# EAGLE library part LT1963AEQ-2.5#PBF (library LT1963AEQ-2.5#PBF)
LDO Voltage Regulators Fast Transient 1.5A LDO Source: Datasheet <https://www.analog.com/media/en/technical-documentation/data-sheets/1963aff.pdf>
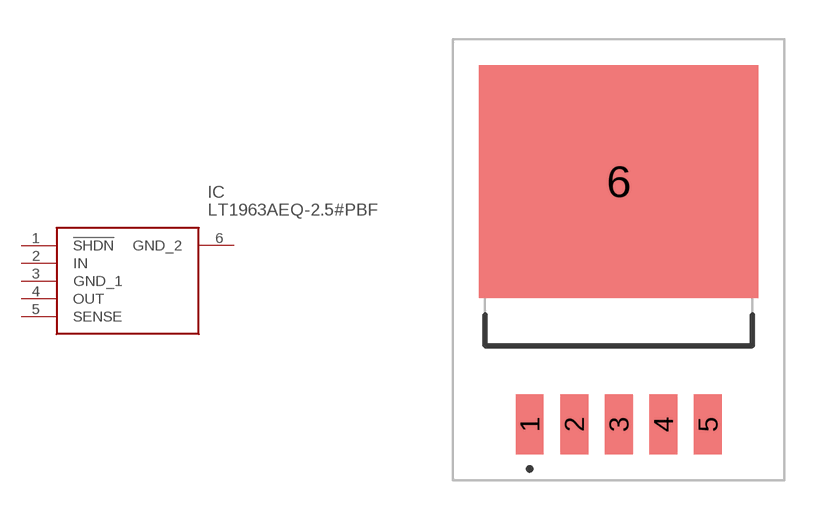
[diagram p0: symbol with the pads of LT1963AEQ25PBF; footprint LT1963AEQ25PBF]

Designator prefix IC

## LT1963AEQ-2.5#PBF (Arrow_Part_Number: LT1963AEQ-2.5#PBF; Arrow_Price-Stock: https://www.arrow.com/en/products/lt1963aeq-2.5pbf/analog-devices?region=nac; Description: LDO Voltage Regulators Fast Transient 1.5A LDO; Height: 4.877mm; Manufacturer_Name: Analog Devices; Manufacturer_Part_Number: LT1963AEQ-2.5#PBF; Mouser_Part_Number: 584-LT1963AEQ-2.5PBF; Mouser_Price-Stock: https://www.mouser.co.uk/ProductDetail/Analog-Devices/LT1963AEQ-2.5PBF?qs=ytflclh7QUVL4eYkr0WUyA%3D%3D)  [LT1963AEQ25PBF]
1  !SHDN
2  IN
3  GND_1
4  OUT
5  SENSE
6  GND_2

## Footprint LT1963AEQ25PBF (pad centres in mm)
5-Lead Plastic DD-Pak_2021
smd 1.067 x 2.286: 1 -3.404,-7.442; 2 -1.702,-7.442; 3 0,-7.442; 4 1.702,-7.442; 5 3.404,-7.442
smd 10.668 x 8.89: 6 0,1.829